# Altium schematic symbol library lmzm33606rlxr.SchLib: 1 symbol
Pins are listed as number, name and electrical type; pins without a type are passive.

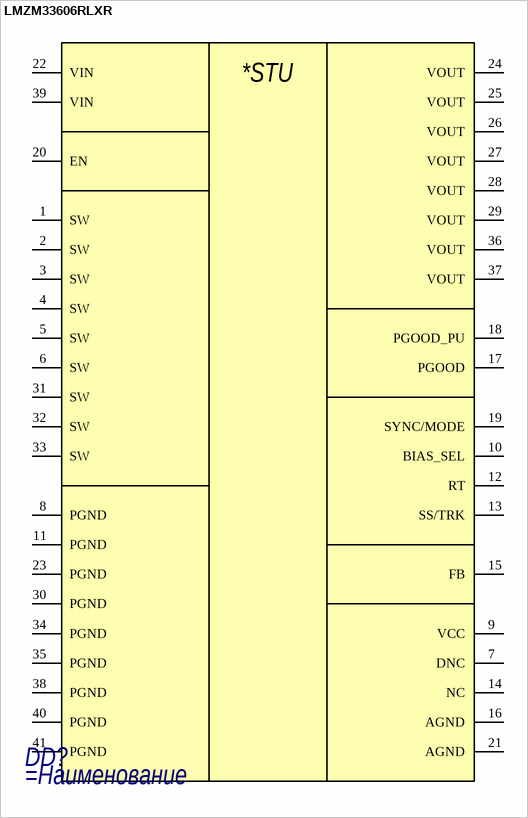
[diagram p0: symbol LMZM33606RLXR]

## LMZM33606RLXR
designator DD?
=Описание
pins: 1 SW, 2 SW, 3 SW, 4 SW, 5 SW, 6 SW, 7 DNC, 8 PGND, 9 VCC, 10 BIAS_SEL, 11 PGND, 12 RT, 13 SS/TRK, 14 NC, 15 FB, 16 AGND, 17 PGOOD, 18 PGOOD_PU, 19 SYNC/MODE, 20 EN, 21 AGND, 22 VIN, 23 PGND, 24 VOUT, 25 VOUT, 26 VOUT, 27 VOUT, 28 VOUT, 29 VOUT, 30 PGND, 31 SW, 32 SW, 33 SW, 34 PGND, 35 PGND, 36 VOUT, 37 VOUT, 38 PGND, 39 VIN, 40 PGND, 41 PGND
text: *STU